# EAGLE library part AMBIQ-APOLLO3 (library SparkFun-IC-Microcontroller)
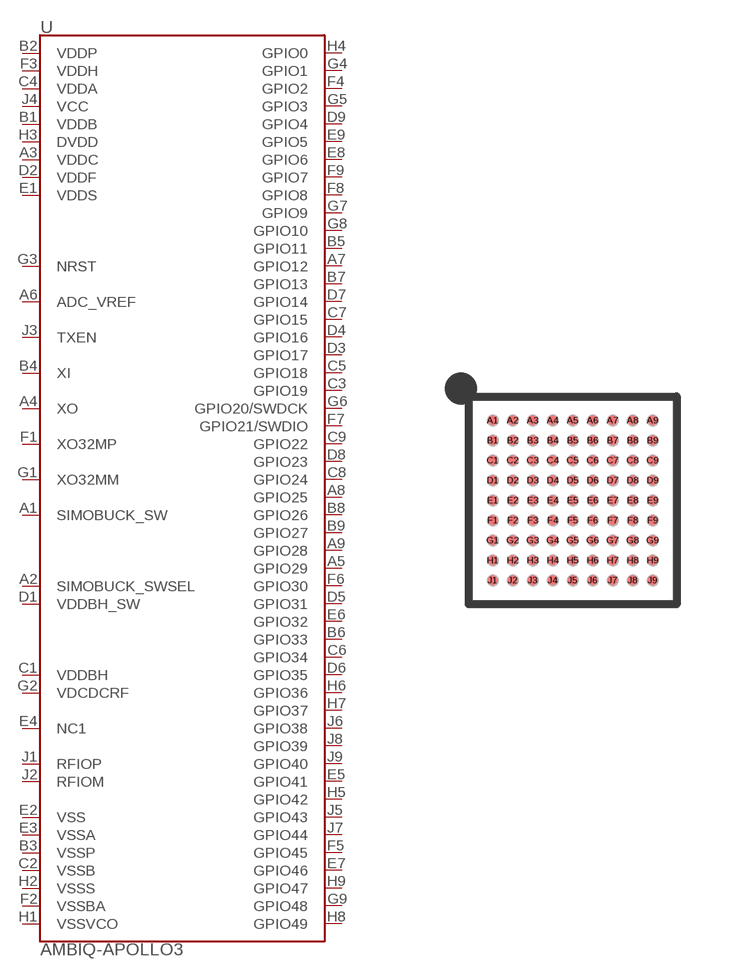
[diagram p34: symbol with the pads of BGA-81-5X5MM; footprint BGA-81-5X5MM]

Designator prefix U

## AMBIQ-APOLLO3KBR (PROD_ID: IC-14228)  [BGA-81-5X5MM]
A1  SIMOBUCK_SW
A2  SIMOBUCK_SWSEL
A3  VDDC
A4  XO
A5  GPIO29
A6  ADC_VREF
A7  GPIO12
A8  GPIO25
A9  GPIO28
B1  VDDB
B2  VDDP
B3  VSSP
B4  XI
B5  GPIO11
B6  GPIO33
B7  GPIO13
B8  GPIO26
B9  GPIO27
C1  VDDBH
C2  VSSB
C3  GPIO19
C4  VDDA
C5  GPIO18
C6  GPIO34
C7  GPIO15
C8  GPIO24
C9  GPIO22
D1  VDDBH_SW
D2  VDDF
D3  GPIO17
D4  GPIO16
D5  GPIO31
D6  GPIO35
D7  GPIO14
D8  GPIO23
D9  GPIO4
E1  VDDS
E2  VSS
E3  VSSA
E4  NC1
E5  GPIO41
E6  GPIO32
E7  GPIO46
E8  GPIO6
E9  GPIO5
F1  XO32MP
F2  VSSBA
F3  VDDH
F4  GPIO2
F5  GPIO45
F6  GPIO30
F7  GPIO21/SWDIO
F8  GPIO8
F9  GPIO7
G1  XO32MM
G2  VDCDCRF
G3  NRST
G4  GPIO1
G5  GPIO3
G6  GPIO20/SWDCK
G7  GPIO9
G8  GPIO10
G9  GPIO48
H1  VSSVCO
H2  VSSS
H3  DVDD
H4  GPIO0
H5  GPIO42
H6  GPIO36
H7  GPIO37
H8  GPIO49
H9  GPIO47
J1  RFIOP
J2  RFIOM
J3  TXEN
J4  VCC
J5  GPIO43
J6  GPIO38
J7  GPIO44
J8  GPIO39
J9  GPIO40

## Footprint BGA-81-5X5MM (pad centres in mm)
smd 0.254 x 0.254: A1 -2,2; A2 -1.5,2; A3 -1,2; A4 -0.5,2; A5 0,2; A6 0.5,2; A7 1,2; A8 1.5,2; A9 2,2; B1 -2,1.5; B2 -1.5,1.5; B3 -1,1.5; B4 -0.5,1.5; B5 0,1.5; B6 0.5,1.5; B7 1,1.5; B8 1.5,1.5; B9 2,1.5; C1 -2,1; C2 -1.5,1; C3 -1,1; C4 -0.5,1; C5 0,1; C6 0.5,1; C7 1,1; C8 1.5,1; C9 2,1; D1 -2,0.5; D2 -1.5,0.5; D3 -1,0.5; D4 -0.5,0.5; D5 0,0.5; D6 0.5,0.5; D7 1,0.5; D8 1.5,0.5; D9 2,0.5; E1 -2,0; E2 -1.5,0; E3 -1,0; E4 -0.5,0; E5 0,0; E6 0.5,0; E7 1,0; E8 1.5,0; E9 2,0; F1 -2,-0.5; F2 -1.5,-0.5; F3 -1,-0.5; F4 -0.5,-0.5; F5 0,-0.5; F6 0.5,-0.5; F7 1,-0.5; F8 1.5,-0.5; F9 2,-0.5; G1 -2,-1; G2 -1.5,-1; G3 -1,-1; G4 -0.5,-1; G5 0,-1; G6 0.5,-1; G7 1,-1; G8 1.5,-1; G9 2,-1; H1 -2,-1.5; H2 -1.5,-1.5; H3 -1,-1.5; H4 -0.5,-1.5; H5 0,-1.5; H6 0.5,-1.5; H7 1,-1.5; H8 1.5,-1.5; H9 2,-1.5; J1 -2,-2; J2 -1.5,-2; J3 -1,-2; J4 -0.5,-2; J5 0,-2; J6 0.5,-2; J7 1,-2; J8 1.5,-2; J9 2,-2